# Altium footprint library IC_Cypress.PcbLib: 2 footprints
Each footprint in its own frame and in the unit in brackets; x right, y up, seen from the top. Pads: shape width x height; smd on the part's side, far side on the other; paste and mask are expansions set on the pad; w line width, h text height; cw(c..) or ccw(c..) is an arc to the next point about the centre after c.
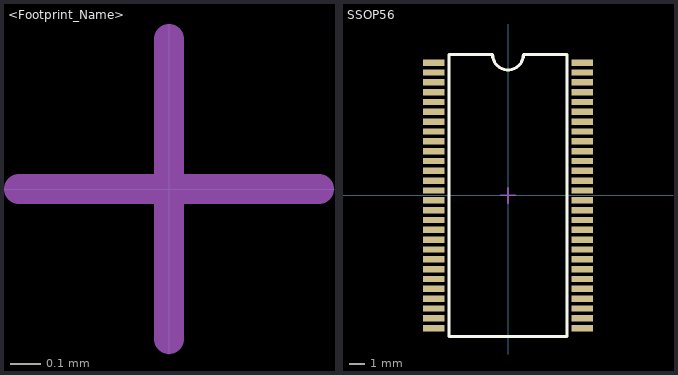
[diagram p0: the footprints below, top view; thin cyan lines are the x and y axes]

## <Footprint_Name> [mm] "<Package_Name>, <Number_of_pins>, <Pitch_in_mm>"
height 2.5
ReperDotTop:
  lines w0.1: -0.5,0 0.5,0 ; 0,-0.5 0,0.5
AssemblyOutlineTop:
  text "'.Designator'" at 0,0 h2.5

## SSOP56 [mm] "51-85062 Package, 56 pins, Pitch 0.635mm"
height 2.5
pads (56):
  rect 1.4x0.4 smd: 1(-4.8,8.572) 2(-4.8,7.938) 3(-4.8,7.302) 4(-4.8,6.667) 5(-4.8,6.032) 6(-4.8,5.397) 7(-4.8,4.763) 8(-4.8,4.127) 9(-4.8,3.492) 10(-4.8,2.857) 11(-4.8,2.222) 12(-4.8,1.587) 13(-4.8,0.953) 14(-4.8,0.318) 15(-4.8,-0.318) 16(-4.8,-0.953) 17(-4.8,-1.587) 18(-4.8,-2.222) 19(-4.8,-2.857) 20(-4.8,-3.492) 21(-4.8,-4.127) 22(-4.8,-4.763) 23(-4.8,-5.397) 24(-4.8,-6.032) 25(-4.8,-6.667) 26(-4.8,-7.302) 27(-4.8,-7.938) 28(-4.8,-8.572) 29(4.8,-8.572) 30(4.8,-7.938) 31(4.8,-7.302) 32(4.8,-6.667) 33(4.8,-6.032) 34(4.8,-5.397) 35(4.8,-4.763) 36(4.8,-4.127) 37(4.8,-3.492) 38(4.8,-2.857) 39(4.8,-2.222) 40(4.8,-1.587) 41(4.8,-0.953) 42(4.8,-0.318) 43(4.8,0.318) 44(4.8,0.953) 45(4.8,1.587) 46(4.8,2.222) 47(4.8,2.857) 48(4.8,3.492) 49(4.8,4.127) 50(4.8,4.763) 51(4.8,5.397) 52(4.8,6.032) 53(4.8,6.667) 54(4.8,7.302) 55(4.8,7.938) 56(4.8,8.572)
Top Overlay:
  lines w0.2: -3.8,-9.1 -3.8,9.1 -1,9.1 ccw(c0,9.1) 1,9.1 3.8,9.1 3.8,-9.1 -3.8,-9.1
ReperDotTop:
  lines w0.1: -0.5,0 0.5,0 ; 0,-0.5 0,0.5
AssemblyOutlineTop:
  lines w0.12: -3.8,-9.1 -3.8,9.1 -1,9.1 ccw(c0,9.1) 1,9.1 3.8,9.1 3.8,-9.1 -3.8,-9.1
  text "'.Designator'" at 0,0 h2.5
3D body "User Library-SSOP56_CY7C68013A-1.step": height 2.77, standoff 0, extent -5.3,-9.271 5.348,9.272